# EAGLE library part WE-FLEX+_ETD29 (library WE-FLEX+)
WE-FLEX+ Flexible Transformer for DC/DC Converter Characteristics Transformer with 6 identical windings Power up to 300 W possible Isolation voltage 500 VDC Low leakage inductance Operating temperature: –40 °C to +125 °C Applications All kind of switching regulators -Flyback converters -Forward converters -Push-pull converters -Step-up/step-down converters -SEPIC converter <https://katalog.we-online.com/media/images/v2/o14788v209%20Family_WE-FLEX_PLUS.jpg> Details see: https://katalog.we-online.com/en/pbs/WE-FLEX-PLUS Updated by Yingchun, Shan 2019-08-15 2019(C) Wurth Elektronik
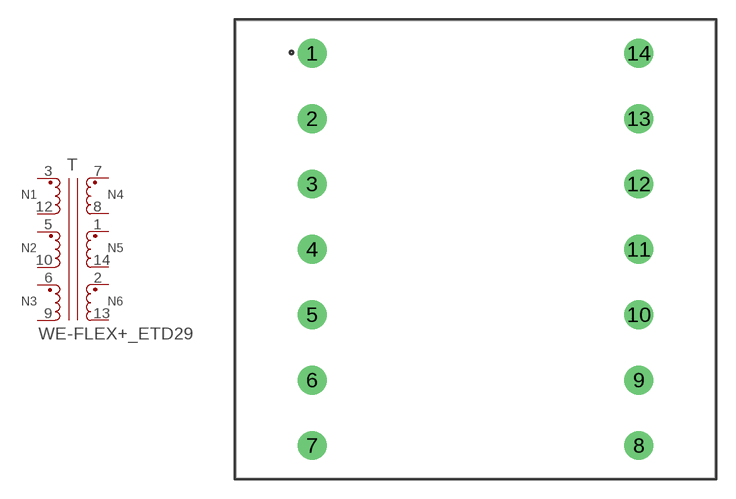
[diagram p2: symbol with the pads of WE-FLEX+_ETD29; footprint WE-FLEX+_ETD29]

Designator prefix T

## WE-FLEX+_ETD29_749197101 (DATASHEET-URL: https://katalog.we-online.com/pbs/datasheet/749197101.pdf; IRBASE: 2.2A; ISATBASE: 0.25A; LSBASE: 0.32uH; N: 1:1:1:1:1:1; PART-NUMBER: 749197101; RDCBASE: 45mOhm; VALUE: 284uH; VT: 500 V (AC)), WE-FLEX+_ETD29_749197111 (DATASHEET-URL: https://katalog.we-online.com/pbs/datasheet/749197111.pdf; IRBASE: 2.2A; ISATBASE: 0.4A; LSBASE: 0.32uH; N: 1:1:1:1:1:1; PART-NUMBER: 749197111; RDCBASE: 45mOhm; VALUE: 75.1uH; VT: 500 V (AC)), WE-FLEX+_ETD29_749197121 (DATASHEET-URL: https://katalog.we-online.com/pbs/datasheet/749197121.pdf; IRBASE: 2.2A; ISATBASE: 0.83A; LSBASE: 0.32uH; N: 1:1:1:1:1:1; PART-NUMBER: 749197121; RDCBASE: 45mOhm; VALUE: 46.3uH; VT: 500 V (AC)), WE-FLEX+_ETD29_749197131 (DATASHEET-URL: https://katalog.we-online.com/pbs/datasheet/749197131.pdf; IRBASE: 2.2A; ISATBASE: 1.83A; LSBASE: 0.32uH; N: 1:1:1:1:1:1; PART-NUMBER: 749197131; RDCBASE: 45mOhm; VALUE: 24.3uH; VT: 500 V (AC)), WE-FLEX+_ETD29_749197141 (DATASHEET-URL: https://katalog.we-online.com/pbs/datasheet/749197141.pdf; IRBASE: 2.2A; ISATBASE: 3.1A; LSBASE: 0.32uH; N: 1:1:1:1:1:1; PART-NUMBER: 749197141; RDCBASE: 45mOhm; VALUE: 15uH; VT: 500 V (AC))  [WE-FLEX+_ETD29]
1  10  pas
2  8  pas
3  1  pas
5  3  pas
6  5  pas
7  12  pas
8  11  pas
9  6  pas
10  4  pas
12  2  pas
13  7  pas
14  9  pas

## Footprint WE-FLEX+_ETD29 (pad centres in mm)
WE-FLEX+ Flexible Transformer for DC/DC Converter Size: ETD29 THT 14Pin
drill 1.5: 1 -12.7,15.24; 2 -12.7,10.16; 3 -12.7,5.08; 4 -12.7,0; 5 -12.7,-5.08; 6 -12.7,-10.16; 7 -12.7,-15.24; 8 12.7,-15.24; 9 12.7,-10.16; 10 12.7,-5.08; 11 12.7,0; 12 12.7,5.08; 13 12.7,10.16; 14 12.7,15.24